# Altium footprint library CM1223_ESD.PcbLib: 1 footprints
Each footprint in its own frame and in the unit in brackets; x right, y up, seen from the top. Pads: shape width x height; smd on the part's side, far side on the other; paste and mask are expansions set on the pad; w line width, h text height; cw(c..) or ccw(c..) is an arc to the next point about the centre after c.
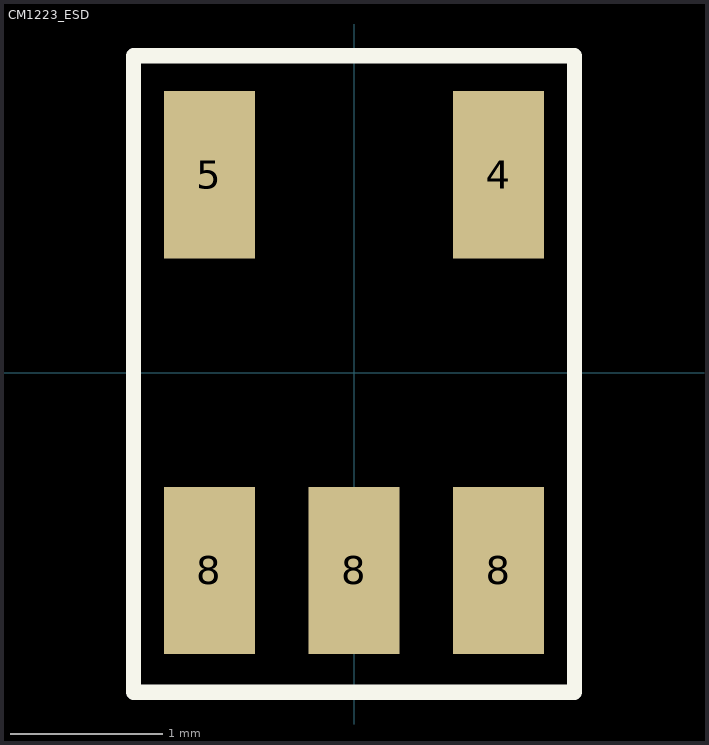
[diagram p0: the footprint, top view; thin cyan lines are the x and y axes]

## CM1223_ESD [mm]
pads (5):
  rect 0.6x1.1 smd: 4(0.95,1.3) 5(-0.95,1.3) 8(-0.95,-1.3) 8(0,-1.3) 8(0.95,-1.3)
Top Overlay:
  lines w0.1: -1.45,-2.1 1.45,-2.1 1.45,2.082 -1.45,2.082 -1.45,-2.1